# EAGLE library part PHS8 (library GTA04b7)
Cinterion UMTS/LTE LGA PHS8
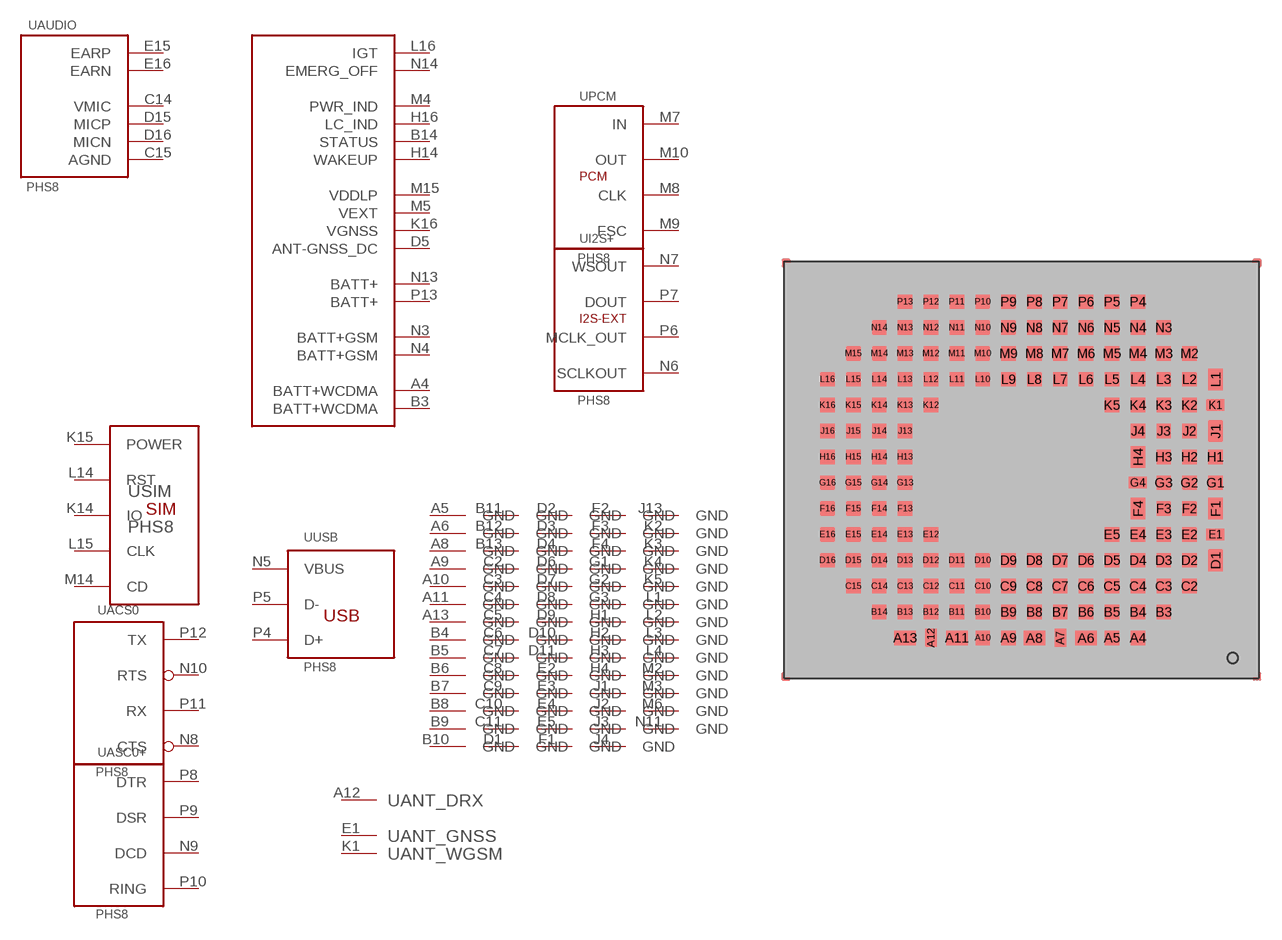
[diagram p34: symbol with the pads of P*S8; footprint P*S8]

Designator prefix -; gates ACS0=IF-UART ANT_DRX=PIN-GENERIC ANT_GNSS=PIN-GENERIC ANT_WGSM=PIN-GENERIC ASC0+=IF-UART-CTL AUDIO=PHS8-AUDIO G$1=GND-PIN G$2=GND-PIN G$3=GND-PIN G$4=GND-PIN G$5=GND-PIN G$6=GND-PIN G$7=GND-PIN G$8=GND-PIN G$9=GND-PIN G$10=GND-PIN G$11=GND-PIN G$12=GND-PIN G$13=GND-PIN G$14=GND-PIN G$15=GND-PIN G$16=GND-PIN G$17=GND-PIN G$18=GND-PIN G$19=GND-PIN G$20=GND-PIN G$21=GND-PIN G$22=GND-PIN G$23=GND-PIN G$24=GND-PIN G$25=GND-PIN G$26=GND-PIN G$27=GND-PIN G$28=GND-PIN G$29=GND-PIN G$30=GND-PIN G$31=GND-PIN G$32=GND-PIN G$33=GND-PIN G$34=GND-PIN G$35=GND-PIN G$36=GND-PIN G$37=GND-PIN G$38=GND-PIN G$39=GND-PIN G$40=GND-PIN G$41=GND-PIN G$42=GND-PIN G$43=GND-PIN G$44=GND-PIN G$45=GND-PIN G$46=GND-PIN G$47=GND-PIN G$48=GND-PIN G$49=GND-PIN G$50=GND-PIN G$51=GND-PIN G$52=GND-PIN G$53=GND-PIN G$54=GND-PIN G$55=GND-PIN G$56=GND-PIN G$57=GND-PIN G$58=GND-PIN G$59=GND-PIN G$60=GND-PIN G$61=GND-PIN G$62=GND-PIN G$63=GND-PIN G$64=GND-PIN G$65=GND-PIN G$66=GND-PIN G$67=GND-PIN G$68=GND-PIN G$69=GND-PIN I2S+=PHS8-I2S PCM=IF-PCM POWER=PHS8-POWER SIM=IF-SIM USB=IF-USB

## PHS8  [P*S8]
A4  POWER:BATT+WCDMA  pwr
A5  G$1:GND  pwr
A6  G$2:GND  pwr
A8  G$3:GND  pwr
A9  G$4:GND  pwr
A10  G$5:GND  pwr
A11  G$6:GND  pwr
A12  ANT_DRX:PIN  pas
A13  G$7:GND  pwr
B3  POWER:BATT+WCDMA  pwr
B4  G$8:GND  pwr
B5  G$9:GND  pwr
B6  G$10:GND  pwr
B7  G$11:GND  pwr
B8  G$12:GND  pwr
B9  G$13:GND  pwr
B10  G$14:GND  pwr
B11  G$15:GND  pwr
B12  G$16:GND  pwr
B13  G$17:GND  pwr
B14  POWER:STATUS  out
C2  G$18:GND  pwr
C3  G$19:GND  pwr
C4  G$20:GND  pwr
C5  G$21:GND  pwr
C6  G$22:GND  pwr
C7  G$23:GND  pwr
C8  G$24:GND  pwr
C9  G$25:GND  pwr
C10  G$26:GND  pwr
C11  G$27:GND  pwr
C14  AUDIO:VMIC  out
C15  AUDIO:AGND  pwr
D1  G$28:GND  pwr
D2  G$29:GND  pwr
D3  G$30:GND  pwr
D4  G$31:GND  pwr
D5  POWER:ANT-GNSS_DC  pwr
D6  G$32:GND  pwr
D7  G$33:GND  pwr
D8  G$34:GND  pwr
D9  G$35:GND  pwr
D10  G$36:GND  pwr
D11  G$37:GND  pwr
D15  AUDIO:MICP  out
D16  AUDIO:MICN  out
E1  ANT_GNSS:PIN  pas
E2  G$38:GND  pwr
E3  G$39:GND  pwr
E4  G$40:GND  pwr
E5  G$41:GND  pwr
E15  AUDIO:EARP  pas
E16  AUDIO:EARN  out
F1  G$42:GND  pwr
F2  G$43:GND  pwr
F3  G$44:GND  pwr
F4  G$45:GND  pwr
G1  G$46:GND  pwr
G2  G$47:GND  pwr
G3  G$48:GND  pwr
H1  G$49:GND  pwr
H2  G$50:GND  pwr
H3  G$51:GND  pwr
H4  G$52:GND  pwr
H14  POWER:WAKEUP  out
H16  POWER:LC_IND  out
J1  G$53:GND  pwr
J2  G$54:GND  pwr
J3  G$55:GND  pwr
J4  G$56:GND  pwr
J13  G$57:GND  pwr
K1  ANT_WGSM:PIN  pas
K2  G$58:GND  pwr
K3  G$59:GND  pwr
K4  G$60:GND  pwr
K5  G$61:GND  pwr
K14  SIM:IO
K15  SIM:POWER  pwr
K16  POWER:VGNSS  pwr
L1  G$62:GND  pwr
L2  G$63:GND  pwr
L3  G$64:GND  pwr
L4  G$65:GND  pwr
L14  SIM:RST  out
L15  SIM:CLK  out
L16  POWER:IGT  in
M2  G$66:GND  pwr
M3  G$67:GND  pwr
M4  POWER:PWR_IND  out
M5  POWER:VEXT  pwr
M6  G$68:GND  pwr
M7  PCM:IN  in
M8  PCM:CLK
M9  PCM:FSC
M10  PCM:OUT
M14  SIM:CD  in
M15  POWER:VDDLP  pwr
N3  POWER:BATT+GSM  pwr
N4  POWER:BATT+GSM  pwr
N5  USB:VBUS  pwr
N6  I2S+:SCLKOUT  out
N7  I2S+:WSOUT  out
N8  ACS0:CTS  in
N9  ASC0+:DCD  in
N10  ACS0:RTS  out
N11  G$69:GND  pwr
N13  POWER:BATT+  pwr
N14  POWER:EMERG_OFF  in
P4  USB:D+
P5  USB:D-
P6  I2S+:MCLK_OUT  out
P7  I2S+:DOUT  out
P8  ASC0+:DTR  out
P9  ASC0+:DSR  out
P10  ASC0+:RING  in
P11  ACS0:RX  in
P12  ACS0:TX  out
P13  POWER:BATT+  pwr

## Footprint P*S8 (pad centres in mm)
Cinterion P*S8 LGA modules
smd 1 x 1: A4 8.1,-11.7; A5 6.3,-11.7; A9 -0.9,-11.7; A10 -2.7,-11.7; B3 9.9,-9.9; B4 8.1,-9.9; B5 6.3,-9.9; B6 4.5,-9.9; B7 2.7,-9.9; B8 0.9,-9.9; B9 -0.9,-9.9; B10 -2.7,-9.9; B11 -4.5,-9.9; B12 -6.3,-9.9; B13 -8.1,-9.9; B14 -9.9,-9.9; C2 11.7,-8.1; C3 9.9,-8.1; C4 8.1,-8.1; C5 6.3,-8.1; C6 4.5,-8.1; C7 2.7,-8.1; C8 0.9,-8.1; C9 -0.9,-8.1; C10 -2.7,-8.1; C11 -4.5,-8.1; C12 -6.3,-8.1; C13 -8.1,-8.1; C14 -9.9,-8.1; C15 -11.7,-8.1; D2 11.7,-6.3; D3 9.9,-6.3; D4 8.1,-6.3; D5 6.3,-6.3; D6 4.5,-6.3; D7 2.7,-6.3; D8 0.9,-6.3; D9 -0.9,-6.3; D10 -2.7,-6.3; D11 -4.5,-6.3; D12 -6.3,-6.3; D13 -8.1,-6.3; D14 -9.9,-6.3; D15 -11.7,-6.3; D16 -13.5,-6.3; E2 11.7,-4.5; E3 9.9,-4.5; E4 8.1,-4.5; E5 6.3,-4.5; E12 -6.3,-4.5; E13 -8.1,-4.5; E14 -9.9,-4.5; E15 -11.7,-4.5; E16 -13.5,-4.5; F2 11.7,-2.7; F3 9.9,-2.7; F13 -8.1,-2.7; F14 -9.9,-2.7; F15 -11.7,-2.7; F16 -13.5,-2.7; G1 13.5,-0.9; G2 11.7,-0.9; G3 9.9,-0.9; G13 -8.1,-0.9; G14 -9.9,-0.9; G15 -11.7,-0.9; G16 -13.5,-0.9; H1 13.5,0.9; H2 11.7,0.9; H3 9.9,0.9; H13 -8.1,0.9; H14 -9.9,0.9; H15 -11.7,0.9; H16 -13.5,0.9; J2 11.7,2.7; J3 9.9,2.7; J4 8.1,2.7; J13 -8.1,2.7; J14 -9.9,2.7; J15 -11.7,2.7; J16 -13.5,2.7; K2 11.7,4.5; K3 9.9,4.5; K4 8.1,4.5; K5 6.3,4.5; K12 -6.3,4.5; K13 -8.1,4.5; K14 -9.9,4.5; K15 -11.7,4.5; K16 -13.5,4.5; L2 11.7,6.3; L3 9.9,6.3; L4 8.1,6.3; L5 6.3,6.3; L6 4.5,6.3; L7 2.7,6.3; L8 0.9,6.3; L9 -0.9,6.3; L10 -2.7,6.3; L11 -4.5,6.3; L12 -6.3,6.3; L13 -8.1,6.3; L14 -9.9,6.3; L15 -11.7,6.3; L16 -13.5,6.3; M2 11.7,8.1; M3 9.9,8.1; M4 8.1,8.1; M5 6.3,8.1; M6 4.5,8.1; M7 2.7,8.1; M8 0.9,8.1; M9 -0.9,8.1; M10 -2.7,8.1; M11 -4.5,8.1; M12 -6.3,8.1; M13 -8.1,8.1; M14 -9.9,8.1; M15 -11.7,8.1; N3 9.9,9.9; N4 8.1,9.9; N5 6.3,9.9; N6 4.5,9.9; N7 2.7,9.9; N8 0.9,9.9; N9 -0.9,9.9; N10 -2.7,9.9; N11 -4.5,9.9; N12 -6.3,9.9; N13 -8.1,9.9; N14 -9.9,9.9; P4 8.1,11.7; P5 6.3,11.7; P6 4.5,11.7; P7 2.7,11.7; P8 0.9,11.7; P9 -0.9,11.7; P10 -2.7,11.7; P11 -4.5,11.7; P12 -6.3,11.7; P13 -8.1,11.7
smd 1.5 x 1: A6 4.5,-11.7; A8 0.9,-11.7; A11 -4.5,-11.7; A13 -8.1,-11.7
smd 0.8 x 1.25: A7 2.7,-11.7; A12 -6.3,-11.7
smd 1 x 1.5: D1 13.5,-6.3; F1 13.5,-2.7; F4 8.1,-2.7; H4 8.1,0.9; J1 13.5,2.7; L1 13.5,6.3
smd 1.25 x 0.8: E1 13.5,-4.5; G4 8.1,-0.9; K1 13.5,4.5